# EAGLE library part ADV7125 (library sjg-analog)
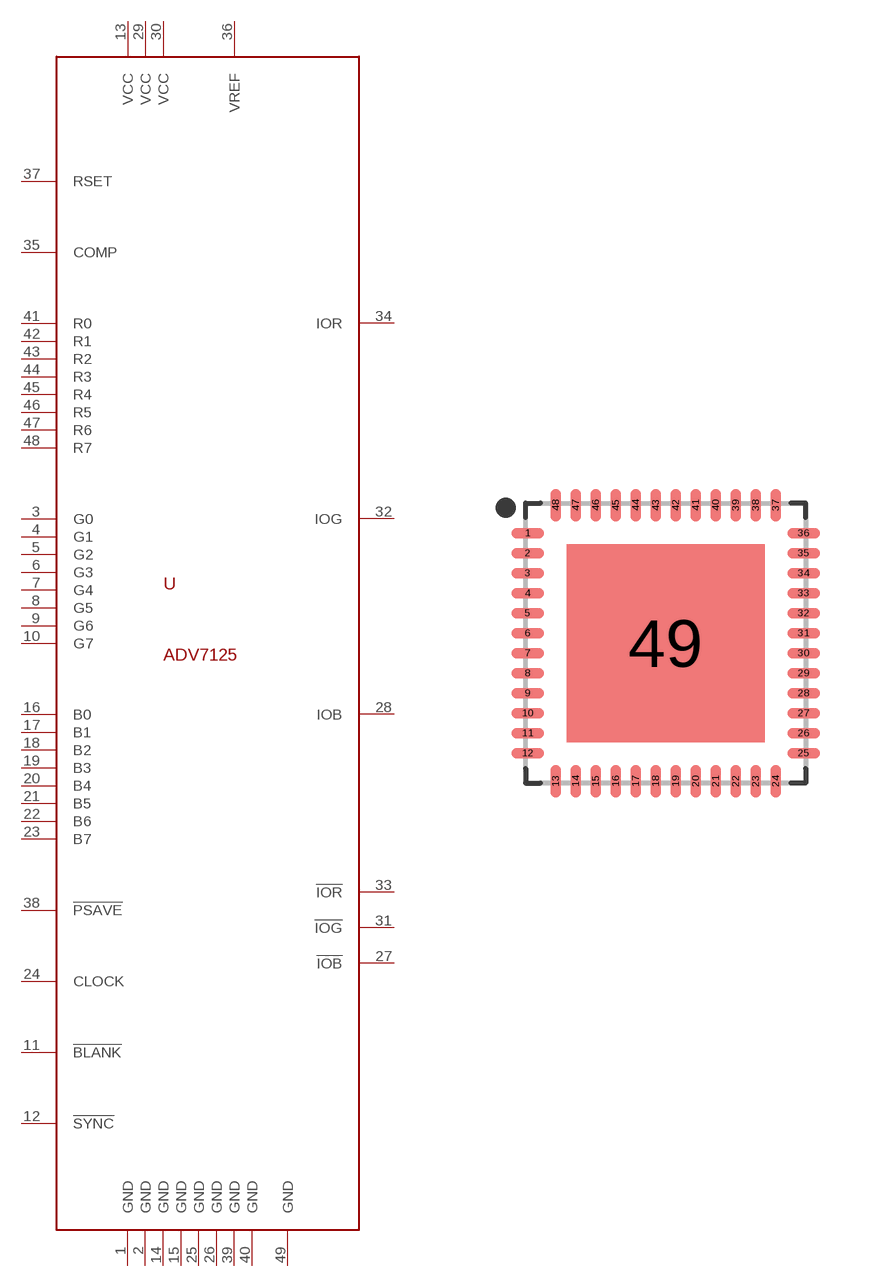
[diagram p3: symbol with the pads of QFN50P700X700X100-49T495; footprint QFN50P700X700X100-49T495]

Designator prefix -

## ADV7125  [QFN50P700X700X100-49T495]
1  GND
2  GND
3  G0
4  G1
5  G2
6  G3
7  G4
8  G5
9  G6
10  G7
11  !BLANK!
12  !SYNC!
13  VCC
14  GND
15  GND
16  B0
17  B1
18  B2
19  B3
20  B4
21  B5
22  B6
23  B7
24  CLOCK
25  GND
26  GND
27  !IOB!
28  IOB
29  VCC
30  VCC
31  !IOG!
32  IOG
33  !IOR!
34  IOR
35  COMP
36  VREF
37  RSET
38  !PSAVE!
39  GND
40  GND
41  R0
42  R1
43  R2
44  R3
45  R4
46  R5
47  R6
48  R7
49  GND

## Footprint QFN50P700X700X100-49T495 (pad centres in mm)
48-QFN, 0.50 mm pitch, 7.00 X 7.00 X 1.00 mm body, 4.95 X 4.95 mm thermal pad 48-pin QFN package with 0.50 mm pitch with body size 7.00 X 7.00 X 1.00 mm and thermal pad size 4.95 X 4.95 mm
smd 0.812 x 0.262: 1 -3.45,2.75; 2 -3.45,2.25; 3 -3.45,1.75; 4 -3.45,1.25; 5 -3.45,0.75; 6 -3.45,0.25; 7 -3.45,-0.25; 8 -3.45,-0.75; 9 -3.45,-1.25; 10 -3.45,-1.75; 11 -3.45,-2.25; 12 -3.45,-2.75; 25 3.45,-2.75; 26 3.45,-2.25; 27 3.45,-1.75; 28 3.45,-1.25; 29 3.45,-0.75; 30 3.45,-0.25; 31 3.45,0.25; 32 3.45,0.75; 33 3.45,1.25; 34 3.45,1.75; 35 3.45,2.25; 36 3.45,2.75
smd 0.262 x 0.812: 13 -2.75,-3.45; 14 -2.25,-3.45; 15 -1.75,-3.45; 16 -1.25,-3.45; 17 -0.75,-3.45; 18 -0.25,-3.45; 19 0.25,-3.45; 20 0.75,-3.45; 21 1.25,-3.45; 22 1.75,-3.45; 23 2.25,-3.45; 24 2.75,-3.45; 37 2.75,3.45; 38 2.25,3.45; 39 1.75,3.45; 40 1.25,3.45; 41 0.75,3.45; 42 0.25,3.45; 43 -0.25,3.45; 44 -0.75,3.45; 45 -1.25,3.45; 46 -1.75,3.45; 47 -2.25,3.45; 48 -2.75,3.45
smd 4.95 x 4.95: 49 0,0